# Altium integrated library main.IntLib: 43 symbols
Pins are listed as number, name and electrical type; pins without a type are passive.

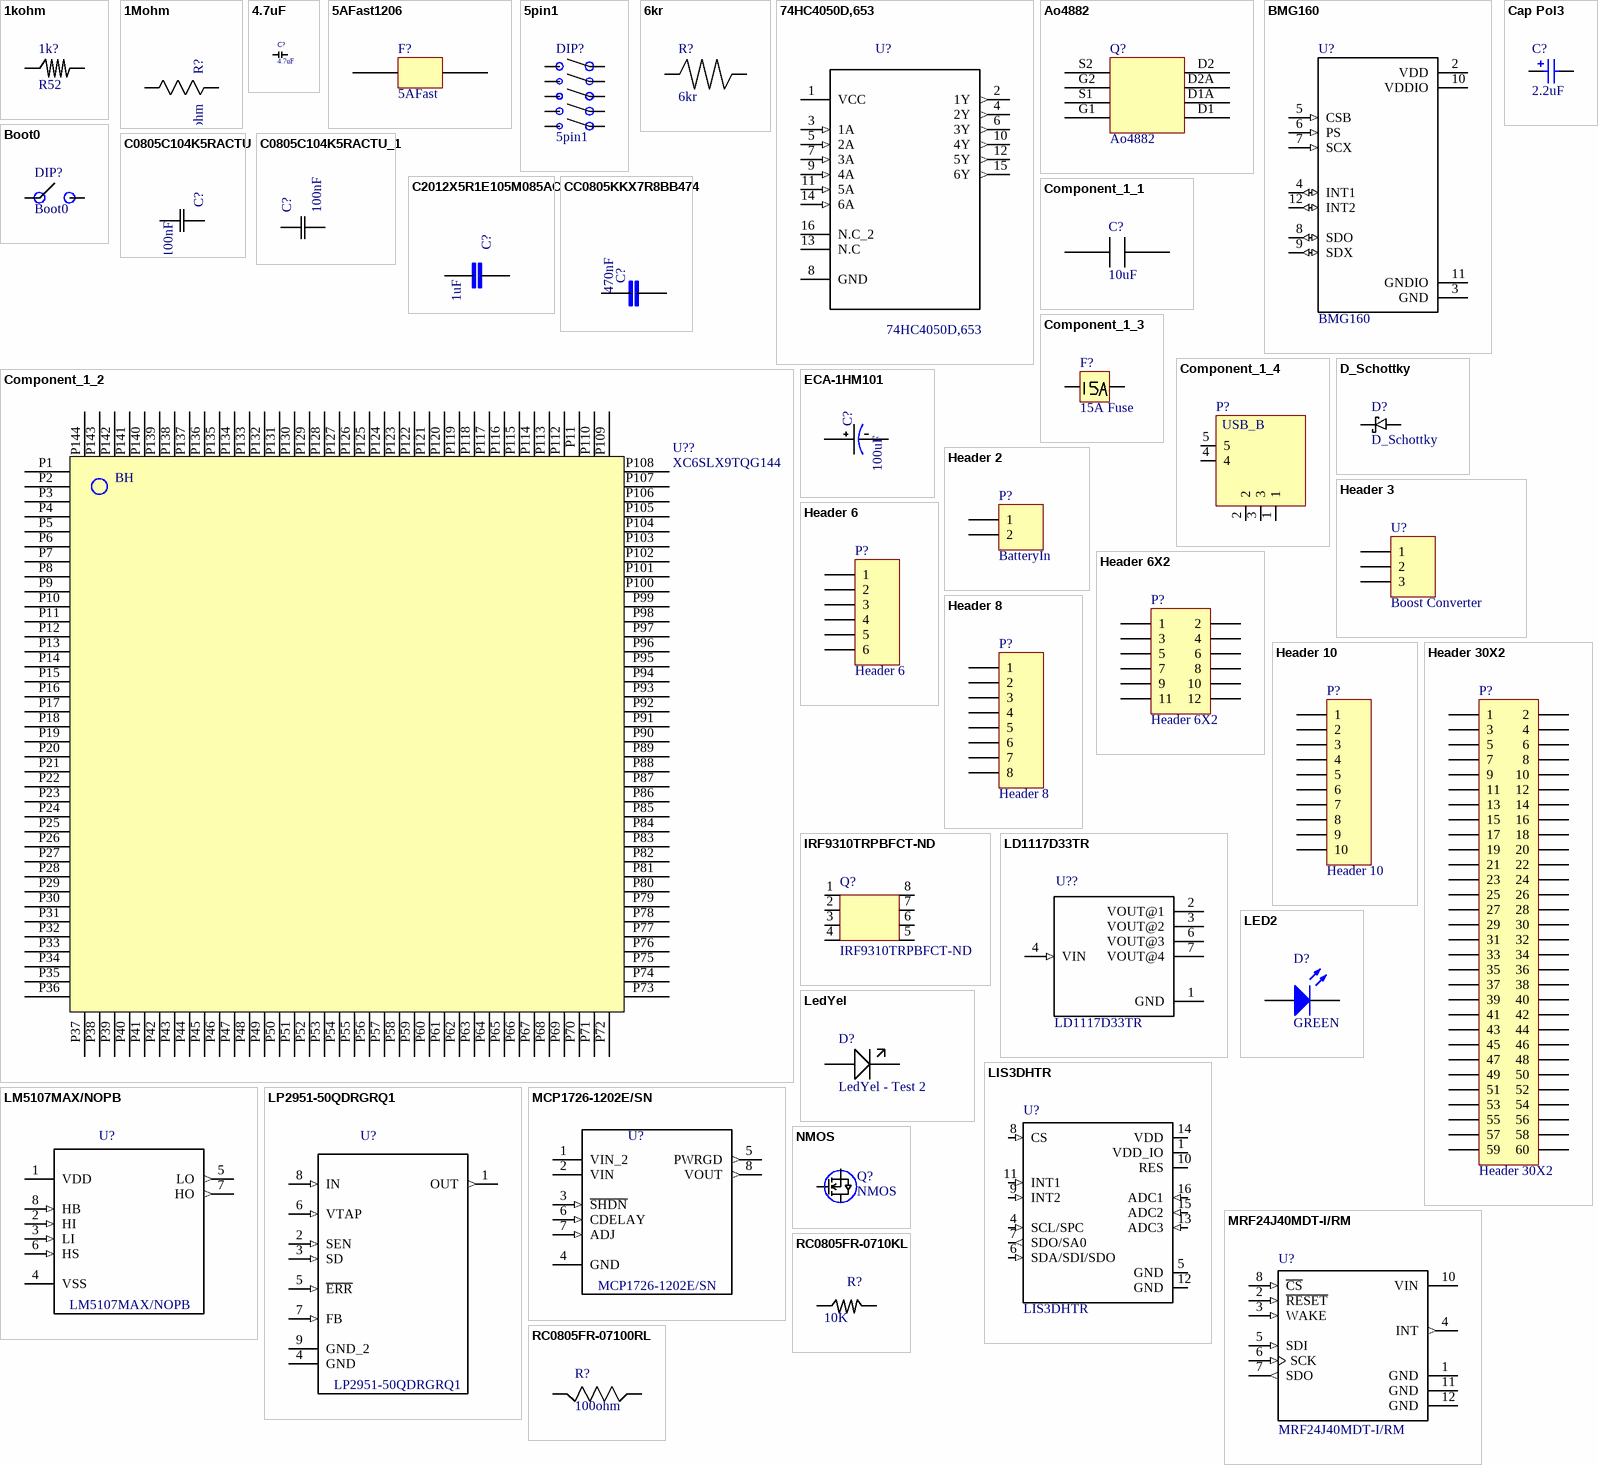
[diagram p0: symbols 1kohm to RC0805FR-07100RL]

## 1kohm
designator 1k?, comment R52
1276-5272-1-ND
footprint CAPC2012X140N
pins: 1, 2

## 1Mohm
designator R?
RES SMD 1M OHM 1% 1/8W 0805; MP: RC0805FR-071ML; MF: Yageo; Digi-Key_Purchase_URL: https://www.digikey.ca/product-detail/en/yageo/RC0805FR-071ML/311-1.00MCRCT-ND/730392?WT.z_cid=ref_snapeda&utm_source=snapeda&utm_medium=aggregator&utm_campaign=buynow; Digi-Key_Part_Number: 311-1.00MCRCT-ND; Package: 0805 Yageo; Value: *
footprint RESC2013X65N
pins: 1 R1, 2 R2

## 4.7uF
designator C?
footprint 0805
pins: P1, P2

## 5AFast1206
designator F?, comment 5AFast
footprint 1206
pins: Fusein In, Fuseout Out

## 5pin1
designator DIP?
footprint SOJ254P980X912-12M (SOJ, 12-Leads, Body 17.50x9.75mm, Pitch 2.54mm, IPC Low Density)
pins: 2, 3, 4, 5, 6, 7, 8, 9, 10, 11

## 6kr
designator R?
footprint CAPM2012X05N (Molded Capacitor, 2-Leads, Body 2.00x1.25mm, IPC Medium Density)
pins: 1, 2

## 74HC4050D,653
designator U?
74HC Series 6 V Surface Mount Hex High-to-Low Level Shifter - SOIC-16; MF: Nexperia; Package: SO-16 Nexperia; Digi-Key_Purchase_URL: https://www.digikey.ca/product-detail/en/nexperia-usa-inc/74HC4050D,653/1727-6331-1-ND/2762840?WT.z_cid=ref_snapeda&utm_source=snapeda&utm_medium=aggregator&utm_campaign=buynow; MP: 74HC4050D,653; SnapEDA_Link: https://www.snapeda.com/parts/74HC4050D%2C653/Nexperia/view-part/?ref=snap; Digi-Key_Part_Number: 1727-6331-1-ND; Value: *
footprint SOIC127P600X175-16N
pins: 1 VCC (power), 2 1Y (out), 3 1A (in), 4 2Y (out), 5 2A (in), 6 3Y (out), 7 3A (in), 8 GND, 9 4A (in), 10 4Y (out), 11 5A (in), 12 5Y (out), 13 N.C, 14 6A (in), 15 6Y (out), 16 N.C_2

## Ao4882
designator Q?
footprint SOIC127P490X600X175-8N
pins: D1 5, D1A 6, D2 8, D2A 7, G1 4, G2 2, S1 3, S2 1

## BMG160
designator U?
BMG160 Series 16 Bit 2000Â°/s 3-Axis Angular Rate Gyroscope Sensor 3 mm x 3 mm; MF: Bosch; MP: BMG160; Digi-Key_Purchase_URL: https://www.digikey.ca/product-detail/en/bosch-sensortec/BMG160/828-1042-1-ND/4196689?WT.z_cid=ref_snapeda; Package: VFLGA-12 Bosch; Digi-Key_Part_Number: 828-1042-1-ND; Value: *
footprint OFN50P300X300X100-12N
pins: 2 VDD (power), 3 GND, 4 INT1 (io), 5 CSB (in), 6 PS (in), 7 SCX (in), 8 SDO (io), 9 SDX (io), 10 VDDIO (power), 11 GNDIO, 12 INT2 (io)

## Boot0
designator DIP?
footprint SOJ254P980X912-12M (SOJ, 12-Leads, Body 17.50x9.75mm, Pitch 2.54mm, IPC Low Density)
pins: 1, 12

## C0805C104K5RACTU
designator C?, comment 100nF
Capacitor; Ceramic; Cap; .100UF ; Tol+-10%; SMD; Vol-Rtg 50V; X7R, Tape/Reel; MP: C0805C104K5RACTU; MF: Kemet; Package: 0805 Kemet; Value: *
footprint CAPC2013X110N
pins: 1 C1, 2 C2

## C0805C104K5RACTU_1
designator C?, comment 100nF
Capacitor; Ceramic; Cap; .100UF ; Tol+-10%; SMD; Vol-Rtg 50V; X7R, Tape/Reel; MP: C0805C104K5RACTU; MF: Kemet; Package: 0805 Kemet; Value: *
footprint CAPC2013X110N
pins: 1 C1, 2 C2

## C2012X5R1E105M085AC
designator C?, comment 1uF
CAP CER 1UF 25V X5R 0805; MF: TDK; MP: C2012X5R1E105M085AC; Package: 0805 TDK; Value: *
footprint INDC2012X87N
pins: 1, 2

## Cap Pol3
designator C?, comment 2.2uF
CAP CER 2.2UF 25V X7R 0805; MF: Samsung Electro-Mechanics; MP: CL21B225KAFNNWE; DP: 1276-2955-1-ND; Tolerance: 10%; Distributor: Digikey; DL: https://www.digikey.ca/; Value: 2.2uF; Rating: 25V; Datasheet Link: http://www.samsungsem.com/kr/support/product-search/mlcc/__icsFiles/afieldfile/2018/07/24/CL21B225KAFNNWE.pdf; Package: 0805 (2012 Metric)
footprint C0805 (Chip Capacitor, Body 2.0x1.3mm, IPC High Density)
footprint 1812 (Chip Capacitor, Body 4.5x3.2mm, IPC High Density)
footprint 1825 (Chip Capacitor, Body 4.5x6.4mm, IPC High Density)
footprint C2225 (Chip Capacitor, Body 5.7x6.4mm, IPC High Density)
footprint 2220 (Chip Capacitor, Body 5.7x5.0mm, IPC High Density)
simulation model CAP (Capacitor)
signal-integrity model Cap Pol
pins: 1, 2
1 alternate drawing of the same symbol

## CC0805KKX7R8BB474
designator C?, comment 470nF
0805 0.47 uF 25 V Â±10 % Tolerance X7R SMT Multilayer Ceramic Capacitor; MF: Yageo; MP: CC0805KKX7R8BB474; Package: None; Value: *
footprint CAPC2012X70
pins: 1, 2

## Component_1_1
designator C?, comment 10uF
footprint CAPC3216X100N
pins: In, Out

## Component_1_2
designator U??, comment XC6SLX9TQG144
footprint fpgaTQ144fpgaXC6SLX9-3TQG144CfpgaPrimary)
pins: P1 IO_L83N_VREF_3, P2 IO_L83P_3, P3 GND, P4 VCCO_3, P5 IO_L52N_3, P6 IO_L52P_3, P7 IO_L51N_3, P8 IO_L51P_3, P9 IO_L50N_3, P10 IO_L50P_3, P11 IO_L49N_3, P11 IO_L66N_SCP0_0, P12 IO_L49P_3, P13 GND, P14 IO_L44N_GCLK20_3, P15 IO_L44P_GCLK21_3, P16 IO_L43N_GCLK22_IRDY2_3, P17 IO_L43P_GCLK23_3, P18 VCC0_3, P19 VCCINT, P20 VCCAUX, P21 IO_L42N_GCLK24_3, P22 IO_L42P_GCLK25_TRDY2_3, P23 IO_L41N_GCLK26_3, P24 IO_L41P_GCLK27_3, P25 GND, P26 IO_L37N_3, P27 IO_L37P_3, P28 VCCINT, P29 IO_L36N_3, P30 IO_L36P_3, P31 VCCO_3, P32 IO_L2N_3, P33 IO_L2P_3, P34 IO_L1N_VREF_3, P35 IO_L1P_3, P36 VCCAUX, P37 Program_B_2, P38 IO_L65N_CSO_B_2, P39 IO_L65P_INIT_B_2, P40 IO_L64N_D9_2, P41 IO_L64P_D8_2, P42 VCCO_2, P43 IO_L62N_D6_2, P44 IO_L62P_D5_2, P45 IO_L49N_D4_2, P46 IO_L49P_D3_2, P47 IO_L48N_RDWR_B_VREF_2, P48 IO_L48P_D7_2, P49 GND, P50 IO_L31N_GCLK30_D15_2, P51 IO_L31P_GCLK31_D14_2, P52 VCCINT, P53 VCCAUX, P54 GND, P55 IO_L30N_GCLK0_USERCCLK_2, P56 IO_L30P_GCLK1_D13_2, P57 IO_L14N_D12_2, P58 IO_L14P_D11_2, P59 IO_L13N_D10_2, P60 IO_L13P_M1_2, P61 IO_L12N_D2_MISO3_2, P62 IO_L12P_D1_MISO2_2, P63 VCCO_2, P64 IO_L3N_MOSI_CSI_B_MISO0_2, P65 IO_L3P_DO_DIN_MISO_MISO1_2, P66 IO_L2N_CMPMOSI_2, P67 IO_L2P_CMPCLK_2, P68 GND, P69 IO_L1N_M0_CMPMISO_2, P70 IO_L1P_CCLK_2, P71 DONE_2, P72 CMPCS_B_2, P73 SUSPEND, P74 IO_L74N_DOUT_BUSY_1, P75 IO_L74P_AWAKE_1, P76 VCCO_1, P77 GND, P78 IO_L47N_1, P79 IO_L47P_1, P80 IO_L46N_1, P81 IO_L46P_1, P82 IO_L45N_1, P83 IO_L45P_1, P84 IO_L43N_GCLK4_1, P85 IO_L43P_GCLK5_1, P86 VCCO_1, P87 IO_L42N_GCLK6_TRDY1_1, P88 IO_L42P_GCLK7_1, P89 VCCINT, P90 VCCAUX, P91 GND, P92 IO_L41N_GCLK8_1, P93 IO_L41P_GCLK9_IRDY1_1, P94 IO_L40N_GCLK10_1, P95 IO_L40P_GCLK11_1, P96 GND, P97 IO_L34N_1, P98 IO_L34P_1, P99 IO_L33N_1, P100 IO_L33P_1, P101 IO_L32N_1, P102 IO_L32P_1, P103 VCCO_1, P104 IO_L1N_VREF_1, P105 IO_L1P_1, P106 TD0, P107 TMS, P108 GND, P109 TCK, P110 TDI, P112 IO_L66P_SCP1_0, P113 GND, P114 IO_L65N_SCP2_0, P115 IO_L65P_SCP3_0, P116 IO_L64N_SCP4_0, P117 IO_L64P_SCP5_0, P118 IO_L63N_SCP6_0, P119 IO_L63P_SCP7_0, P120 IO_L62N_VREF_0, P121 IO_L62P_0, P122 VCCO_0, P123 IO_L37N_GCLK12_0, P124 IO_L37P_GCLK13_0, P125 VCCO_0, P126 IO_L36N_GCLK14_0, P127 IO_L36P_GCLK15_0, P128 VCCINT, P129 VCCAUX, P130 GND, P131 IO_L35N_GCLK16_0, P132 IO_L35P_GCLK17_0, P133 IO_L34N_GCLK18_0, P134 IO_L34P_GCLK19_0, P135 VCCO_0, P136 GND, P137 IO_L4N_0, P138 IO_L4P_0, P139 IO_L3N_0, P140 IO_L3P_0, P141 IO_L2N_0, P142 IO_L2P_0, P143 IO_L1N_VREF_0, P144 IO_L1P_HSWAPEN_0
text: BH

## Component_1_3
designator F?, comment 15A Fuse
footprint 1206
pins: 1, 2

## Component_1_4
designator P?, comment USB_B
footprint PCBComponent_1
pins: 1, 2, 3, 4, 5

## D_Schottky
designator D?
pins: 1, 2

## ECA-1HM101
designator C?, comment 100uF
CAP ALUM 100UF 20% 50V RADIAL; MF: Panasonic; MP: ECA-1HM101; Package: Radial Panasonic; Value: *
footprint 100uFCAPPRD350W60D800H1150B100uFECA-1HM101(Primary)
pins: NEG, POS

## Header 2
designator P?, comment BatteryIn
Header, 2-Pin; LatestRevisionDate: 17-Jul-2002; LatestRevisionNote: Re-released for DXP Platform.; Publisher: Altium Limited
footprint HDR1X2 (Connector; Header; 2 Position)
signal-integrity model Connector
pins: 1, 2

## Header 3
designator U?, comment Boost Converter
Header, 3-Pin; LatestRevisionDate: 17-Jul-2002; LatestRevisionNote: Re-released for DXP Platform.; Publisher: Altium Limited
footprint HDR1X3 (Connector; Header; 3 Position)
signal-integrity model Connector
pins: 1, 2, 3

## Header 6
designator P?
Header, 6-Pin; LatestRevisionDate: 17-Jul-2002; LatestRevisionNote: Re-released for DXP Platform.; Publisher: Altium Limited
footprint HDR1X6 (Connector; Header; 6 Position)
signal-integrity model Connector
pins: 1, 2, 3, 4, 5, 6

## Header 6X2
designator P?
Header, 6-Pin, Dual row; LatestRevisionDate: 17-Jul-2002; LatestRevisionNote: Re-released for DXP Platform.; Publisher: Altium Limited
footprint HDR2X6 (Connector; Header; 6x2 Position)
signal-integrity model Connector
pins: 1, 2, 3, 4, 5, 6, 7, 8, 9, 10, 11, 12

## Header 8
designator P?
Header, 8-Pin; LatestRevisionDate: 17-Jul-2002; LatestRevisionNote: Re-released for DXP Platform.; Publisher: Altium Limited
footprint HDR1X8 (Connector; Header; 8 Position)
signal-integrity model Connector
pins: 1, 2, 3, 4, 5, 6, 7, 8

## Header 10
designator P?
Header, 10-Pin; LatestRevisionDate: 17-Jul-2002; LatestRevisionNote: Re-released for DXP Platform.; Publisher: Altium Limited
footprint HDR1X10 (Connector; Header; 10 Position)
signal-integrity model Connector
pins: 1, 2, 3, 4, 5, 6, 7, 8, 9, 10

## Header 30X2
designator P?
Header, 30-Pin, Dual row; LatestRevisionDate: 17-Jul-2002; LatestRevisionNote: Re-released for DXP Platform.; Publisher: Altium Limited
footprint HDR2X30 (Connector; Header; 30x2 Position)
signal-integrity model Connector
pins: 1, 2, 3, 4, 5, 6, 7, 8, 9, 10, 11, 12, 13, 14, 15, 16, 17, 18, 19, 20, 21, 22, 23, 24, 25, 26, 27, 28, 29, 30, 31, 32, 33, 34, 35, 36, 37, 38, 39, 40, 41, 42, 43, 44, 45, 46, 47, 48, 49, 50, 51, 52, 53, 54, 55, 56, 57, 58, 59, 60

## IRF9310TRPBFCT-ND
designator Q?
footprint SOIC127P600X175-8N
pins: 1 S1, 2 S2, 3 S3, 4 G, 5 D5, 6 D6, 7 D7, 8 D8

## LD1117D33TR
designator U??
IC REG LINEAR 3.3V 800MA 8SO; MF: STMicroelectronics; Package: SO-8 STMicroelectronics; MP: LD1117D33TR; Value: *
footprint SOIC127P600X175-8N
pins: 1 GND (power), 2 VOUT@1, 3 VOUT@2, 4 VIN (in), 6 VOUT@3, 7 VOUT@4

## LED2
designator D?, comment GREEN
Typical RED, GREEN, YELLOW, AMBER GaAs LED; Published: 8-Jun-2000; LatestRevisionDate: 17-Jul-2002; LatestRevisionNote: Re-released for DXP Platform.; PackageVersion: Feb-2002; PackageReference: 3.2X1.6X1.1; Publisher: Altium Limited; PackageDescription: SM LED; 2 Flat Leads
footprint 3.2X1.6X1.1 (SMT LED; 2 Flat Leads)
simulation model LED2 (Diode)
pins: 1 A, 2 K

## LedYel
designator D?, comment LedYel - Test 2
footprint 1206
pins: P1 +, P2 -

## LIS3DHTR
designator U?
MEMS digital output motion sensor ultra low-power high performance 3-axes; MF: STMicroelectronics; Package: LGA-16 STMicroelectronics; MP: LIS3DHTR; Value: *
footprint LGA16R50P5X3_300X300X100N
pins: 1 VDD_IO (power), 4 SCL/SPC (in), 5 GND (power), 6 SDA/SDI/SDO (in), 7 SDO/SA0 (out), 8 CS (in), 9 INT2 (in), 10 RES (power), 11 INT1 (in), 12 GND (power), 13 ADC3 (in), 14 VDD (power), 15 ADC2 (in), 16 ADC1 (in)

## LM5107MAX/NOPB
designator U?
MOSFET DRVR 1.4A 2-OUT Hi/Lo Side Full Brdg/Half Brdg Non-Inv 8-Pin SOIC N T/R; MF: Texas Instruments; Digi-Key_Part_Number: LM5107MAX/NOPBCT-ND; MP: LM5107MAX/NOPB; Package: None; Digi-Key_Purchase_URL: https://www.digikey.ca/product-detail/en/texas-instruments/LM5107MAX-NOPB/LM5107MAX-NOPBCT-ND/3527005?WT.z_cid=ref_snapeda; Value: *
footprint SOIC127P620X175-8N
pins: 1 VDD (power), 2 HI (in), 3 LI (in), 4 VSS (power), 5 LO (out), 6 HS (in), 7 HO (out), 8 HB (in)

## LP2951-50QDRGRQ1
designator U?
IC REG LIN POS ADJ 100MA 8SON; MF: Texas Instruments; Package: SON-8 Texas Instruments; MP: LP2951-50QDRGRQ1; Value: *
footprint DFN400X400X80-9N
pins: 1 OUT (out), 2 SEN (in), 3 SD (in), 4 GND, 5 ~{ERR} (in), 6 VTAP (in), 7 FB (in), 8 IN (in), 9 GND_2

## MCP1726-1202E/SN
designator U?
IC REG LINEAR 1.2V 1A 8SOIC; MF: Microchip; Package: SOIC-8 Microchip; MP: MCP1726-1202E/SN; Value: *
footprint SOIC127P490X175-8N
pins: 1 VIN_2 (power), 2 VIN (power), 3 ~{SHDN} (in), 4 GND, 5 PWRGD (out), 6 CDELAY (in), 7 ADJ (in), 8 VOUT (out)

## MRF24J40MDT-I/RM
designator U?
2.4 GHz IEEE 802.15.4 Certified Transceiver Module (+20 dBm), 12 MODULE Varies T/R; MF: Microchip; MP: MRF24J40MDT-I/RM; Package: SMD-12 Microchip; Value: *
footprint XCVR_MRF24J40MDT-I/RM
pins: 1 GND (power), 2 ~{RESET} (in), 3 WAKE (in), 4 INT (out), 5 SDI (in), 6 SCK (in), 7 SDO (out), 8 ~{CS} (in), 10 VIN (power), 11 GND (power), 12 GND (power)

## NMOS
designator Q?
footprint SOT95P230X110-3N
pins: 1 Gate, 2 Source, 3 Drain

## RC0805FR-0710KL
designator R?, comment 10K
RES SMD 10K OHM 1% 1/8W 0805; MP: RC0805FR-0710KL; MF: Yageo; Package: 0805 Yageo; Value: *
footprint RESC2012X60
pins: 1, 2

## RC0805FR-07100RL
designator R?, comment 100ohm
RES SMD 100 OHM 1% 1/8W 0805; MP: RC0805FR-07100RL; MF: Yageo; Package: 0805 Yageo; Value: *
footprint RESC2012X60
pins: 1, 2

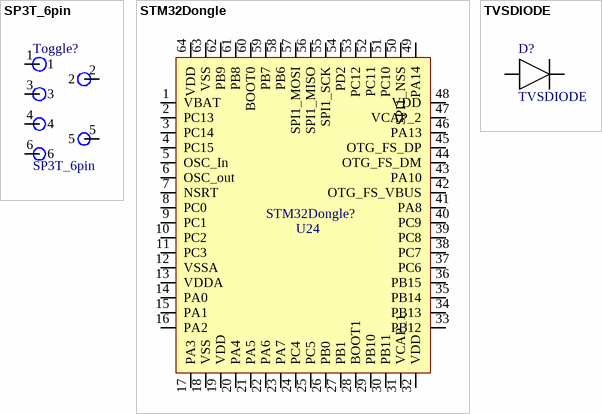
[diagram p1: symbols SP3T_6pin to TVSDIODE]

## SP3T_6pin
designator Toggle?
pins: 1, 2, 3, 4, 5, 6

## STM32Dongle
designator STM32Dongle?, comment U24
497-11907-ND; MF: STMicroelectronics; MP: STM32F415RGT6; Rating: 3.3V; DP: 497-11907-ND; Distributor: Digikey; Datasheet Link: https://www.st.com/content/ccc/resource/technical/document/datasheet/98/9f/89/73/01/b1/48/98/DM00035129.pdf/files/DM00035129.pdf/jcr:content/translations/en.DM00035129.pdf; DL: https://www.digikey.ca/; Package: 64-LQFP; Tolerance: N/A; Value: N/A
footprint QFP50P1200X1200X160-64N
pins: 1 VBAT, 2 PC13, 3 PC14, 4 PC15, 5 OSC_In, 6 OSC_out, 7 NSRT, 8 PC0, 9 PC1, 10 PC2, 11 PC3, 12 VSSA, 13 VDDA, 14 PA0, 15 PA1, 16 PA2, 17 PA3, 18 VSS, 19 VDD, 20 PA4, 21 PA5, 22 PA6, 23 PA7, 24 PC4, 25 PC5, 26 PB0, 27 PB1, 28 BOOT1, 29 PB10, 30 PB11, 31 VCAP_1, 32 VDD, 33 PB12, 34 PB13, 35 PB14, 36 PB15, 37 PC6, 38 PC7, 39 PC8, 40 PC9, 41 PA8, 42 OTG_FS_VBUS, 43 PA10, 44 OTG_FS_DM, 45 OTG_FS_DP, 46 PA13, 47 VCAP_2, 48 VDD, 49 PA14, 50 SPI1_NSS, 51 PC10, 52 PC11, 53 PC12, 54 PD2, 55 SPI1_SCK, 56 SPI1_MISO, 57 SPI1_MOSI, 58 PB6, 59 PB7, 60 BOOT0, 61 PB8, 62 PB9, 63 VSS, 64 VDD

## TVSDIODE
designator D?
footprint SODFL521X200-2N (SODFL, 2-Leads, Body 2.60x5.21mm, IPC Medium Density)
pins: 1, 1